# Altium schematic symbol library MDBT50Q-ATMS_52833_230606.SchLib: 1 symbol
Pins are listed as number, name and electrical type; pins without a type are passive.

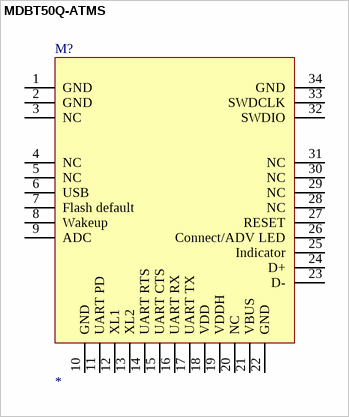
[diagram p0: symbol MDBT50Q-ATMS]

## MDBT50Q-ATMS
designator M?
MDBT50Q-ATMS(52833)
pins: 1 GND, 2 GND, 3 NC, 4 NC, 5 NC, 6 USB, 7 Flash default, 8 Wakeup, 9 ADC, 10 GND, 11 UART PD, 12 XL1, 13 XL2, 14 UART RTS, 15 UART CTS, 16 UART RX, 17 UART TX, 18 VDD, 19 VDDH, 20 NC, 21 VBUS, 22 GND, 23 D-, 24 D+, 25 Indicator, 26 Connect/ADV LED, 27 RESET, 28 NC, 29 NC, 30 NC, 31 NC, 32 SWDIO, 33 SWDCLK, 34 GND